# Altium schematic symbol library LimeMicroAltiumLib_schLib.SchLib: 174 symbols (part 7 of 8)
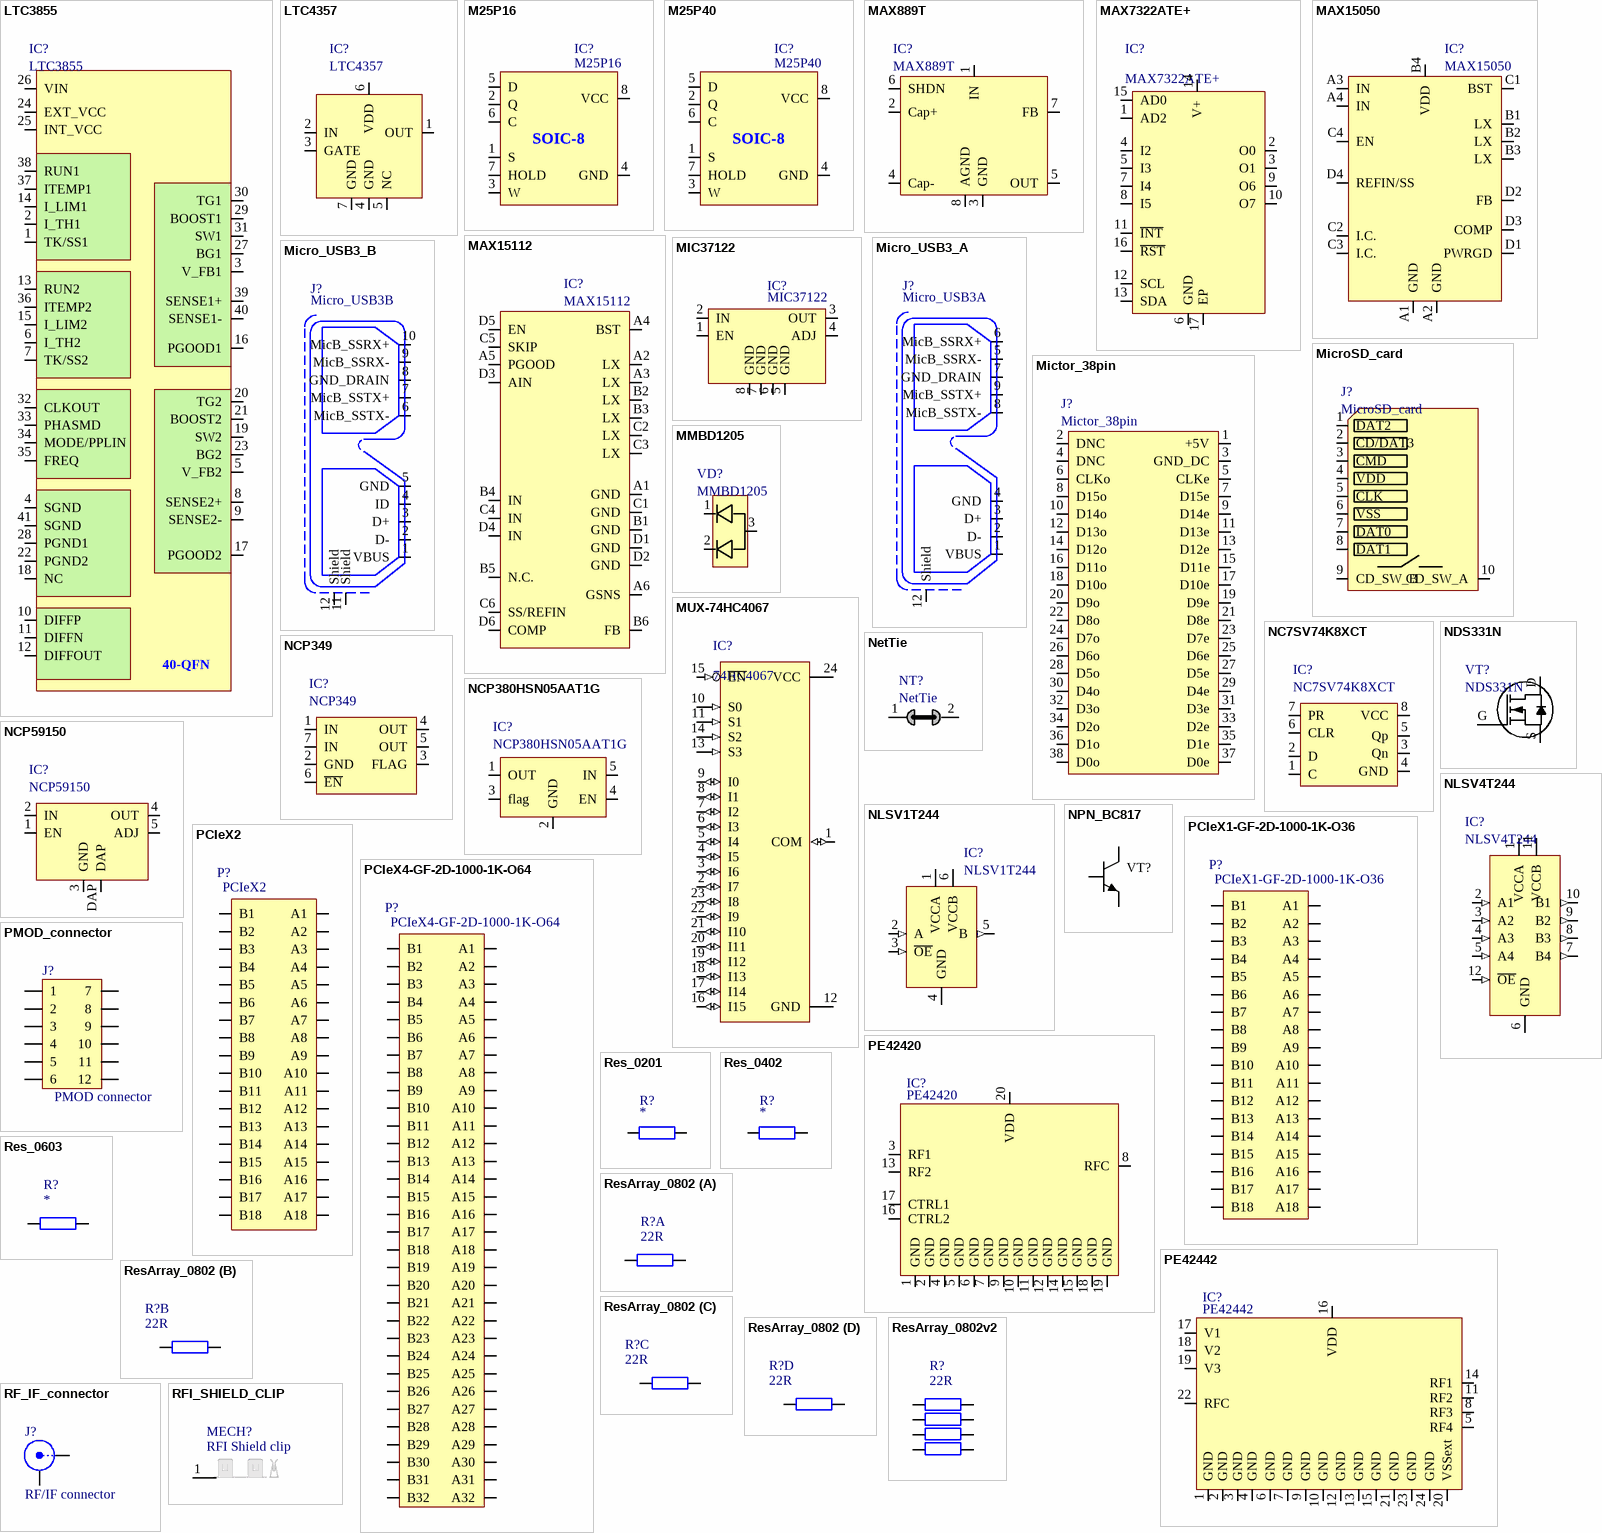
[diagram p40: symbols LTC3855 to RFI_SHIELD_CLIP]

## LTC4357
designator IC?
Manufacturer Part Number: LTC4357IDCB#TRMPBF; Current - Supply: 500µA; Delay Time - OFF: 300ns; Voltage - Supply: 9 V ~ 80 V; FET Type: N-Channel; Supplier 1: Digi-Key; Type: N+1 ORing Controller; Category: Integrated Circuits (ICs); Applications: Automotive, Redundant Power Supplies, Telecom Infrastructure; Operating Temperature: -40°C ~ 85°C; Supplier Device Package: 6-DFN (2x3); Supplier Part Number: LTC4357IDCB#TRMPBFDKR-ND
footprint LTC4357 (SON, 6-Leads, Body 2,00x3,00mm, Pitch 0,50mm, Thermal Pad 1,35x1,12mm, IPC Medium Density)
pins: 1 OUT, 2 IN, 3 GATE, 4 GND, 5 NC, 6 VDD, 7 GND

## M25P16
designator IC?
Manufacturer: Micron Technology Inc; Voltage - Supply: 2.7 V ~ 3.6 V; Memory Size: 16M (2M x 8); Speed: 75MHz; Supplier 1: Digi-Key; Supplier: Digi-Key; Supplier Device Package: 8-SO W; Supplier Part Number: M25P16-VMW6TGCT-ND
footprint M25P16_SO8 (SOIC, 8-Leads, Body 4,90x3,90mm, Pitch 1,27mm, IPC Medium Density)
pins: 1 S, 2 Q, 3 W, 4 GND, 5 D, 6 C, 7 HOLD, 8 VCC
text: SOIC-8

## M25P40
designator IC?
Manufacturer: Micron Technology Inc; Memory Size: 4M (512K x 8); Voltage - Supply: 2.3 V ~ 3.6 V; Supplier 1: Digi-Key; Supplier Device Package: 8-SO; Supplier: Digi-Key; Supplier Part Number: M25P40-VMN6TPBTR-ND
footprint M25P40-VMN6TPB_SO8N (SOIC, 8-Leads, Body 4,90x3,90mm, Pitch 1,27mm, IPC Medium Density)
pins: 1 S, 2 Q, 3 W, 4 GND, 5 D, 6 C, 7 HOLD, 8 VCC
text: SOIC-8

## MAX889T
designator IC?
Manufacturer Part Number 1: MAX889TESA+; Manufacturer: Maxim Integrated; Synchronous Rectifier: No; Voltage - Input: 2.7 V ~ 5.5 V; Current - Output: 200mA; Number of Outputs: 1; Output Type: Adjustable; Frequency - Switching: 2MHz; Voltage - Output: -2.5 V ~ -5.5 V; Supplier 1: Digi-Key; Packaging: Tube; Category: Integrated Circuits (ICs); Type: Switched Capacitor (Charge Pump), Inverting; Mounting Type: Surface Mount; Supplier Device Package: 8-SOIC N; Package / Case: 8-SOIC (0.154", 3.90mm Width); Operating Temperature: -40°C ~ 85°C; RoHS: RoHS Compliant; Supplier Part Number 1: MAX889TESA+-ND
footprint MAX889T (SOIC, 8-Leads, Body 4,90x3,90mm, Pitch 1,27mm, IPC Medium Density)
pins: 1 IN, 2 Cap+, 3 GND, 4 Cap-, 5 OUT, 6 SHDN, 7 FB, 8 AGND

## MAX7322ATE+
designator IC?
Manufacturer: Maxim Integrated; Interface: I²C; Number of I/O: 4 (Input Only); Voltage - Supply: 1.7 V ~ 5.5 V; Interrupt Output: Yes; Current - Output Source/Sink: 20mA; Frequency - Clock: 400kHz; Supplier 1: Digi-Key; Mounting Type: Surface Mount; Category: Integrated Circuits (ICs); RoHS: RoHS Compliant; Packaging: Tube; Manufacturer Part Number: MAX7322ATE+; Supplier Device Package: 16-TQFN-EP (3x3); Package / Case: 16-WFQFN Exposed Pad; Operating Temperature: -40°C ~ 125°C; Features: POR; Output Type: -; Supplier Part Number 1: MAX7322ATE+-ND
footprint MAX7322ATE_QFN16
pins: 1 AD2, 2 O0, 3 O1, 4 I2, 5 I3, 6 GND, 7 I4, 8 I5, 9 O6, 10 O7, 11 ~{INT}, 12 SCL, 13 SDA, 14 V+, 15 AD0, 16 ~{RST}, 17 EP

## MAX15050
designator IC?
Input Voltage MIN: 2.9 V; Output Voltage: 600 mV to 6 V; Output Current: 4 A; Brand: Maxim Integrated; Input Voltage MAX: 5.5 V; Supplier 1: Mouser; Minimum Operating Temperature: - 40 C; Series: MAX15050; Package / Case: WLP-16; Category: Voltage Regulators - Switching Regulators; Maximum Operating Temperature: + 85 C; Supplier Part Number 1: 700-MAX15050EWE+T
footprint MAX15050 (BGA, 16-Leads, Body 2,22x2,06mmx0,25mm, Pitch 0,50mm)
pins: A1 GND, A2 GND, A3 IN, A4 IN, B1 LX, B2 LX, B3 LX, B4 VDD, C1 BST, C2 I.C., C3 I.C., C4 EN, D1 PWRGD, D2 FB, D3 COMP, D4 REFIN/SS

## MAX15112
designator IC?
Development Kit: MAX15112EVKIT#; Topology: Buck; Brand: Maxim Integrated; Input Voltage MIN: 2.7 V; Input Voltage MAX: 5.5 V; Supplier 1: Mouser; Type: Current-Mode Synchronous Step-Down; Category: Voltage Regulators - Switching Regulators; Series: MAX15112; Package / Case: WLP-24; Maximum Operating Temperature: + 85 C; Minimum Operating Temperature: - 40 C; Supplier Part Number 1: 700-MAX15112EWG+
footprint MAX15112 (BGA, 24-Leads, Body 3,02x2,07mmx0,25mm, Pitch 0,50mm)
pins: A1 GND, A2 LX, A3 LX, A4 BST, A5 PGOOD, A6 GSNS, B1 GND, B2 LX, B3 LX, B4 IN, B5 N.C., B6 FB, C1 GND, C2 LX, C3 LX, C4 IN, C5 SKIP, C6 SS/REFIN, D1 GND, D2 GND, D3 AIN, D4 IN, D5 EN, D6 COMP

## MIC37122
designator IC?
Voltage - Input: 2.375 V ~ 5.5 V; Supplier 1: Digi-Key; Supplier: Digi-Key; Package / Case: 8-SOIC (0.154", 3.90mm Width); Supplier Part Number: 576-4334-2-ND
footprint MIC37122YM TR_SO8 (SOIC, 8-Leads, Body 4,90x3,90mm, Pitch 1,27mm, IPC Medium Density)
pins: 1 EN, 2 IN, 3 OUT, 4 ADJ, 5 GND, 6 GND, 7 GND, 8 GND

## Micro_USB3_A
designator J?, comment Micro_USB3A
footprint microUSB3A_SM
pins: 1 VBUS, 2 D-, 3 D+, 4 GND, 5 MicB_SSRX-, 6 MicB_SSRX+, 7 GND_DRAIN, 8 MicB_SSTX-, 9 MicB_SSTX+, 12 Shield

## Micro_USB3_B
designator J?, comment Micro_USB3B
Specifications: USB 3.0, Super Speed; Connector Type: USB - micro B; Supplier 1: Digi-Key; Mounting Type: Surface Mount, Right Angle, Horizontal; Category: Connectors, Interconnects; Supplier: Digi-Key; Supplier Part Number: GSB343K33HRCT-ND
pins: 1 VBUS, 2 D-, 3 D+, 4 ID, 5 GND, 6 MicB_SSTX-, 7 MicB_SSTX+, 8 GND_DRAIN, 9 MicB_SSRX-, 10 MicB_SSRX+, 11 Shield, 12 Shield

## MicroSD_card
designator J?
Supplier 1: Digi-Key; Supplier Part Number 1: HR1964CT-ND
pins: 1 DAT2, 2 CD/DAT3, 3 CMD, 4 VDD, 5 CLK, 6 VSS, 7 DAT0, 8 DAT1, 9 CD_SW_B, 10 CD_SW_A

## Mictor_38pin
designator J?
Manufacturer: TE CONNECTIVITY / AMP; Manufacturer Part Number: 2-5767004-2; Contact Termination Type: Surface Mount; Pitch Spacing: 0.64; No. of Contacts: 38; Gender: Receptacle; No. of Rows: 2; Row Pitch: 7.06; Supplier 1: Newark; Series: MICTOR; Contact Plating: Gold; Supplier Part Number 1: 24K3655
footprint AMP_MICTOR38
pins: 1 +5V, 2 DNC, 3 GND_DC, 4 DNC, 5 CLKe, 6 CLKo, 7 D15e, 8 D15o, 9 D14e, 10 D14o, 11 D13e, 12 D13o, 13 D12e, 14 D12o, 15 D11e, 16 D11o, 17 D10e, 18 D10o, 19 D9e, 20 D9o, 21 D8e, 22 D8o, 23 D7e, 24 D7o, 25 D6e, 26 D6o, 27 D5e, 28 D5o, 29 D4e, 30 D4o, 31 D3e, 32 D3o, 33 D2e, 34 D2o, 35 D1e, 36 D1o, 37 D0e, 38 D0o

## MMBD1205
designator VD?
Reverse Recovery Time (trr): 4ns; Diode Configuration: 1 Pair Common Anode; Voltage - DC Reverse (Vr) (Max): 100V; Current - Average Rectified (Io) (per Diode): 200mA; Current - Reverse Leakage @ Vr: 50nA @ 50V; Voltage - Forward (Vf) (Max) @ If: 1V @ 200mA; Supplier 1: Digi-Key; Category: Discrete Semiconductor Products; Supplier Device Package: SOT-23-3 (TO-236); Package / Case: TO-236-3, SC-59, SOT-23-3; Supplier Part Number 1: MMBD1205CT-ND
footprint SOT23-3_v2 (SOT23, 3 pin)
pins: 1, 2, 3

## MUX-74HC4067
designator IC?, comment 74HC4067
MUX-74HC4067; Manufacturer Part Number 1: 74HC4067PW,118; Manufacturer: NXP Semiconductors; Function: Multiplexer/Demultiplexer; On-State Resistance: 120 Ohm; Circuit: 1 x 1:16; Current - Supply: 16µA; Voltage - Supply, Single/Dual (±): 2 V ~ 10 V; Voltage Supply Source: Single Supply; Supplier 1: Digi-Key; Mounting Type: Surface Mount; Supplier Device Package: 24-TSSOP; Packaging: Tape & Reel (TR); RoHS: RoHS Compliant; Operating Temperature: -40°C ~ 125°C; Category: Integrated Circuits (ICs); Package / Case: 24-TSSOP (0.173", 4.40mm Width); Supplier Part Number 1: 74HC4067PW,118-ND
footprint SSOP-24 (SOP, 24-Leads, Body 8,5x5,6mm (max), Pitch 0,65mm, IPC Medium Density)
footprint SSOP-24 (SOP, 24-Leads, Body 8,5x5,6mm (max), Pitch 0,65mm, IPC Medium Density)
pins: 1 COM (io), 2 I7 (io), 3 I6 (io), 4 I5 (io), 5 I4 (io), 6 I3 (io), 7 I2 (io), 8 I1 (io), 9 I0 (io), 10 S0 (in), 11 S1 (in), 12 GND (power), 13 S3 (in), 14 S2 (in), 15 ~{EN} (in), 16 I15 (io), 17 I14 (io), 18 I13 (io), 19 I12 (io), 20 I11 (io), 21 I10 (io), 22 I9 (io), 23 I8 (io), 24 VCC (power)

## NC7SV74K8XCT
designator IC?
Manufacturer: Fairchild Semiconductor; Max Propagation Delay @ V, Max CL: 2.8ns @ 3.3V, 30pF; Frequency - Clock: 200MHz; Current - Output High, Low: 24mA, 24mA; Current - Quiescent: 0.9µA; Number of Bits per Element: 1; Trigger Type: Positive Edge; Output Type: Differential; Function: Set(Preset) and Reset; Input Capacitance: 2pF; Voltage - Supply: 0.9 V ~ 3.6 V; Supplier 1: Digi-Key; Operating Temperature: -40°C ~ 85°C (TA); Mounting Type: Surface Mount; Package / Case: 8-VFSOP (0.091", 2.30mm Width); Packaging: Cut Tape (CT); Number of Elements: 1; Manufacturer Part Number 1: NC7SV74K8X; RoHS: RoHS Compliant; Type: D-Type; Category: Integrated Circuits (ICs); Supplier Part Number 1: NC7SV74K8XCT-ND
footprint NC7SV74K8XCT (SOIC, 8-Leads, Body 2,00x2,30mm, Pitch 1,27mm, IPC Medium Density)
pins: 1 C, 2 D, 3 Qn, 4 GND, 5 Qp, 6 CLR, 7 PR, 8 VCC

## NCP349
designator IC?
Manufacturer: ON Semiconductor; Manufacturer Part Number 1: NCP349MNAETBG; Current - Supply: 70µA; Voltage - Supply: 1.2 V ~ 28 V; Supplier 1: Digi-Key; Operating Temperature: -40°C ~ 85°C; Package / Case: 6-VFDFN Exposed Pad; RoHS: RoHS Compliant; Supplier Device Package: 6-DFN (2x1.6); Category: Integrated Circuits (ICs); Mounting Type: Surface Mount; Voltage - Input: -; Applications: Overvoltage Protection Controller; Packaging: Digi-Reel®; Supplier Part Number 1: NCP349MNAETBGOSDKR-ND
footprint NCP349 (SON, 6-Leads, Body 1,60x2,00mm, Pitch 0,50mm, Thermal Pad 1,20x0,79mm, IPC Medium Density)
pins: 1 IN, 2 GND, 3 FLAG, 4 OUT, 5 OUT, 6 ~{EN}, 7 IN

## NCP380HSN05AAT1G
designator IC?
Manufacturer: ON Semiconductor; Voltage - Input: 2.5 V ~ 5.5 V; Function: Current Limiting; Current - Output: 500mA; Supplier 1: Digi-Key; Category: Integrated Circuits (ICs); Package / Case: 6-TSOP (0.059", 1.50mm Width) 5 leads; Supplier Part Number 1: NCP380HSN05AAT1GOSCT-ND
footprint SOT23-5
pins: 1 OUT, 2 GND, 3 flag, 4 EN, 5 IN

## NCP59150
designator IC?
Manufacturer Part Number 1: NCP59151DS50R4G; Manufacturer: ON SEMICONDUCTOR; Input Voltage Min: 2.24; Dropout Voltage Vdo: 300; Output Voltage Nom.: 5; Input Voltage Max: 13.5; Output Current: 1.5; LDO Regulator Case Style: TO-263; Supplier 1: Farnell; Operating Temperature Range: -40°C to +125; Supplier Part Number 1: 2217055
footprint DPAK170P1420X450-6N (D2-PAK, 6-Pads, Body 7,75x8,46mm (max), IPC Medium Density)
pins: 1 EN, 2 IN, 3 GND, 4 OUT, 5 ADJ, DAP

## NDS331N
designator VT?
Gate Charge (Qg) @ Vgs: 5nC @ 4.5V; Power - Max: 460mW; Current - Continuous Drain (Id) @ 25°C: 1.3A (Ta); Input Capacitance (Ciss) @ Vds: 162pF @ 10V; FET Type: MOSFET N-Channel, Metal Oxide; Drain to Source Voltage (Vdss): 20V; FET Feature: Logic Level Gate; Supplier Device Package: 3-SSOT; Category: Discrete Semiconductor Products; Mounting Type: Surface Mount; Package / Case: TO-236-3, SC-59, SOT-23-3; Supplier: Digi-Key; Supplier Part Number 1: NDS331NCT-ND
footprint SOT23-3 (SOT23, 3 pin)
pins: D, G, S

## NetTie
designator NT?  (net tie, no BOM)
pins: 1, 2

## NLSV1T244
designator IC?
pins: 1 VCCA (power), 2 A (in), 3 ~{OE} (in), 4 GND (power), 5 B (out), 6 VCCB (power)

## NLSV4T244
designator IC?
Manufacturer: ON Semiconductor; Voltage - Supply: 0.9 V ~ 4.5 V; Logic Function: Translator, Unidirectional, 3-State; Supplier 1: Digi-Key; Category: Integrated Circuits (ICs); Package / Case: 12-UFQFN; Supplier Device Package: 12-UQFN (1.7x2); Supplier Part Number 1: NLSV4T244MUTAGOSDKR-ND
footprint NLSV4T244 (PQFN, 12-Leads, Body 1,70x2,00mm, Pitch 0,40mm, IPC Medium Density)
pins: 1 VCCA (power), 2 A1 (in), 3 A2 (in), 4 A3 (in), 5 A4 (in), 6 GND (power), 7 B4 (out), 8 B3 (out), 9 B2 (out), 10 B1 (out), 11 VCCB (power), 12 ~{OE} (in)

## NPN_BC817
designator VT?  (value not drawn)
Transistor SOT-23; Manufacturer Part Number 1: BC817; Manufacturer: MULTICOMP; Transistor Polarity: NPN; Collector Emitter Voltage V(br)ceo: 45; Transition Frequency ft: 170; Power Dissipation Pd: 300; DC Collector Current: 500; DC Current Gain hFE: 100; No. of Pins: 3; SVHC: No SVHC (16-Jun-2014); DC Current Gain Hfe Max: 600; Supplier 1: Farnell; RoHS: YES; Transistor Case Style: SOT-23; Operating Temperature Max: 150; MSL: -; Operating Temperature Min: -65; Operating Temperature Range: -65°C to +150; Supplier Part Number 1: 1798076
footprint SOT23-3_v2 (SOT23, 3 pin)
pins: 1 B, 2 E, 3 C

## PCIeX1-GF-2D-1000-1K-O36
designator P?  (no BOM)
footprint PCIeX1-GF-2D-1000-1K-O36
pins: A1, A2, A3, A4, A5, A6, A7, A8, A9, A10, A11, A12, A13, A14, A15, A16, A17, A18, B1, B2, B3, B4, B5, B6, B7, B8, B9, B10, B11, B12, B13, B14, B15, B16, B17, B18

## PCIeX2
designator P?  (no BOM)
footprint PCIeX2
pins: A1, A2, A3, A4, A5, A6, A7, A8, A9, A10, A11, A12, A13, A14, A15, A16, A17, A18, B1, B2, B3, B4, B5, B6, B7, B8, B9, B10, B11, B12, B13, B14, B15, B16, B17, B18

## PCIeX4-GF-2D-1000-1K-O64
designator P?  (no BOM)
footprint PCIeX4-GF-2D-1000-1K-O64
pins: A1, A2, A3, A4, A5, A6, A7, A8, A9, A10, A11, A12, A13, A14, A15, A16, A17, A18, A19, A20, A21, A22, A23, A24, A25, A26, A27, A28, A29, A30, A31, A32, B1, B2, B3, B4, B5, B6, B7, B8, B9, B10, B11, B12, B13, B14, B15, B16, B17, B18, B19, B20, B21, B22, B23, B24, B25, B26, B27, B28, B29, B30, B31, B32

## PE42420
designator IC?
UltraCMOS SPDT RF Switch  100 – 6000 MHz; Manufacturer Part Number: PE42420LGBB-Z; Manufacturer: Peregrine Semiconductor; Topology: Absorptive; Impedance: 50 Ohm; Frequency - Upper: 6GHz; RF Type: General Purpose; Voltage - Supply: 2.7 V ~ 5.5 V; Frequency - Lower: 100MHz; Insertion Loss @ Frequency: 1.6dB @ 6GHz; Isolation @ Frequency: 50dB @ 6GHz (typ); P1dB: 33dBm (min) IP1dB; IIP3: 65dBm (typ); Supplier 1: Digi-Key; RoHS: RoHS Compliant; Category: RF/IF and RFID; Circuit: SPDT; Supplier Device Package: 20-LGA (4x4); Operating Temperature: -40°C ~ 85°C; Features: -; Packaging: Cut Tape (CT); Package / Case: 20-TFLGA Exposed Pad; Supplier Part Number 1: 1046-1069-1-ND
footprint PE42420_20QFN (QFN, 20-Leads, Body 4,00x4,00mm, Pitch 0,50mm, Thermal Pad 2,70x2,70mm, IPC Medium Density)
pins: 1 GND, 2 GND, 3 RF1 (io), 4 GND, 5 GND, 6 GND, 7 GND, 8 RFC (io), 9 GND, 10 GND, 11 GND, 12 GND, 13 RF2 (io), 14 GND, 15 GND, 16 CTRL2 (in), 17 CTRL1 (in), 18 GND, 19 GND, 20 VDD (power)

## PE42442
designator IC?
UltraCMOS SPDT RF Switch  100 – 6000 MHz; Manufacturer Part Number 1: PE42442A-Z; Manufacturer: Peregrine Semiconductor; Topology: Absorptive; Insertion Loss @ Frequency: 1.1dB @ 900MHz; IIP3: 58dBm (typ); Isolation @ Frequency: 61dB @ 900MHz (typ); RF Type: 3G/4G; Voltage - Supply: 3.3V; Impedance: 50 Ohm; Circuit: SP4T; Frequency - Lower: 30MHz; Frequency - Upper: 6GHz; Supplier 1: Digi-Key; Supplier Device Package: 24-QFN (4x4); Package / Case: 24-WFQFN Exposed Pad; Operating Temperature: -40°C ~ 105°C; Features: -; P1dB: -; Category: RF/IF and RFID; Packaging: Cut Tape (CT); RoHS: RoHS Compliant; Supplier Part Number 1: 1046-1096-1-ND
footprint PE42442_24QFN (QFN, 24-Leads, Body 4,00x4,00mm, Pitch 0,50mm, thermal pad, IPC Medium Density)
pins: 1 GND, 2 GND, 3 GND, 4 GND, 5 RF4 (io), 6 GND, 7 GND, 8 RF3 (io), 9 GND, 10 GND, 11 RF2 (io), 12 GND, 13 GND, 14 RF1 (io), 15 GND, 16 VDD (power), 17 V1 (in), 18 V2 (in), 19 V3 (in), 20 VSSext, 21 GND, 22 RFC (io), 23 GND, 24 GND

## PMOD_connector
designator J?, comment PMOD connector
Header, 4-Pin, Dual row; Manufacturer Part Number: PPPC062LJBN-RC; Manufacturer: Sullins Connector Solutions; Row Spacing: 0.100" (2.54mm); Number of Positions Loaded: All; Number of Positions: 12; Supplier 1: Digi-Key; Mounting Type: Through Hole, Right Angle; Contact Finish: Gold; Features: -; Category: Connectors, Interconnects; Packaging: Bulk; RoHS: RoHS Compliant; Number of Rows: 2; Contact Finish Thickness: Flash; Pitch: 0.100" (2.54mm); Termination: Solder; Contact Type: Female Socket; Color: Black; Connector Type: Header; Fastening Type: -; Supplier Part Number 1: S5559-ND
footprint PMODconn_right_angle_TH (JTAG)
pins: 1, 2, 3, 4, 5, 6, 7, 8, 9, 10, 11, 12

## Res_0201
designator R?
value: *
pins: 1, 2

## Res_0402
designator R?
Value: *
footprint RES0402 (Chip Resistor, Body 1.0x0.5mm, EIA 0402, IPC Medium Density)
pins: 1, 2

## Res_0603
designator R?
Value: *
footprint RES0603 (Chip Resistor, Body 1.6x0.8mm, 0603, IPC Medium Density)
pins: 1, 2

## ResArray_0802
designator R?, comment 22R
Temperature Coefficient: ±200ppm/°C; Tolerance: ±5%; Supplier 1: Digi-Key; Supplier Part Number 1: YC124J-22TR-ND; Package / Case: 0804, Convex, Long Side Terminals; Value: 22R
footprint ChipResistorArray (Chip Array, Flat, 8-Leads, Pitch 0,60mm,  Body 2,05x1,05mm,  IPC Medium Density)
part A pins: 1, 2
part B pins: 3, 4
part C pins: 5, 6
part D pins: 7, 8

## ResArray_0802v2
designator R?, comment 22R
Manufacturer Part Number 1: YC124-JR-0722RL; Temperature Coefficient: ±200ppm/°C; Tolerance: ±5%; Supplier 1: Digi-Key; Supplier Part Number 1: YC124J-22TR-ND; Package / Case: 0804, Convex, Long Side Terminals; Value: 22R
footprint ChipResistorArray (Chip Array, Flat, 8-Leads, Pitch 0,60mm,  Body 2,05x1,05mm,  IPC Medium Density)
pins: 1, 2, 3, 4, 5, 6, 7, 8

## RF_IF_connector
designator J?, comment RF/IF connector
footprint MMCX_conn
pins: 1 X, 2 Y

## RFI_SHIELD_CLIP
designator MECH?, comment RFI Shield clip
Manufacturer Part Number 1: S0971-46R; Manufacturer: HARWIN; Part Description: RFI SHIELD CLIP MINI TIN SMD; SVHC: No SVHC (15-Jun-2015); Supplier 1: Farnell; Supplier: Farnell; Length: 5.8; Clip Type: RFI Shield Clip; Clip Diameter: -; Product Range: -; Mounting Hole Dia: -; RoHS: YES; Supplier Part Number 1: 2361677
footprint RFI_SHIELD_CLPS_MINI (RFI SHIELD CLIP MINI TIN SMD, S0971-46R)
pins: 1 GND

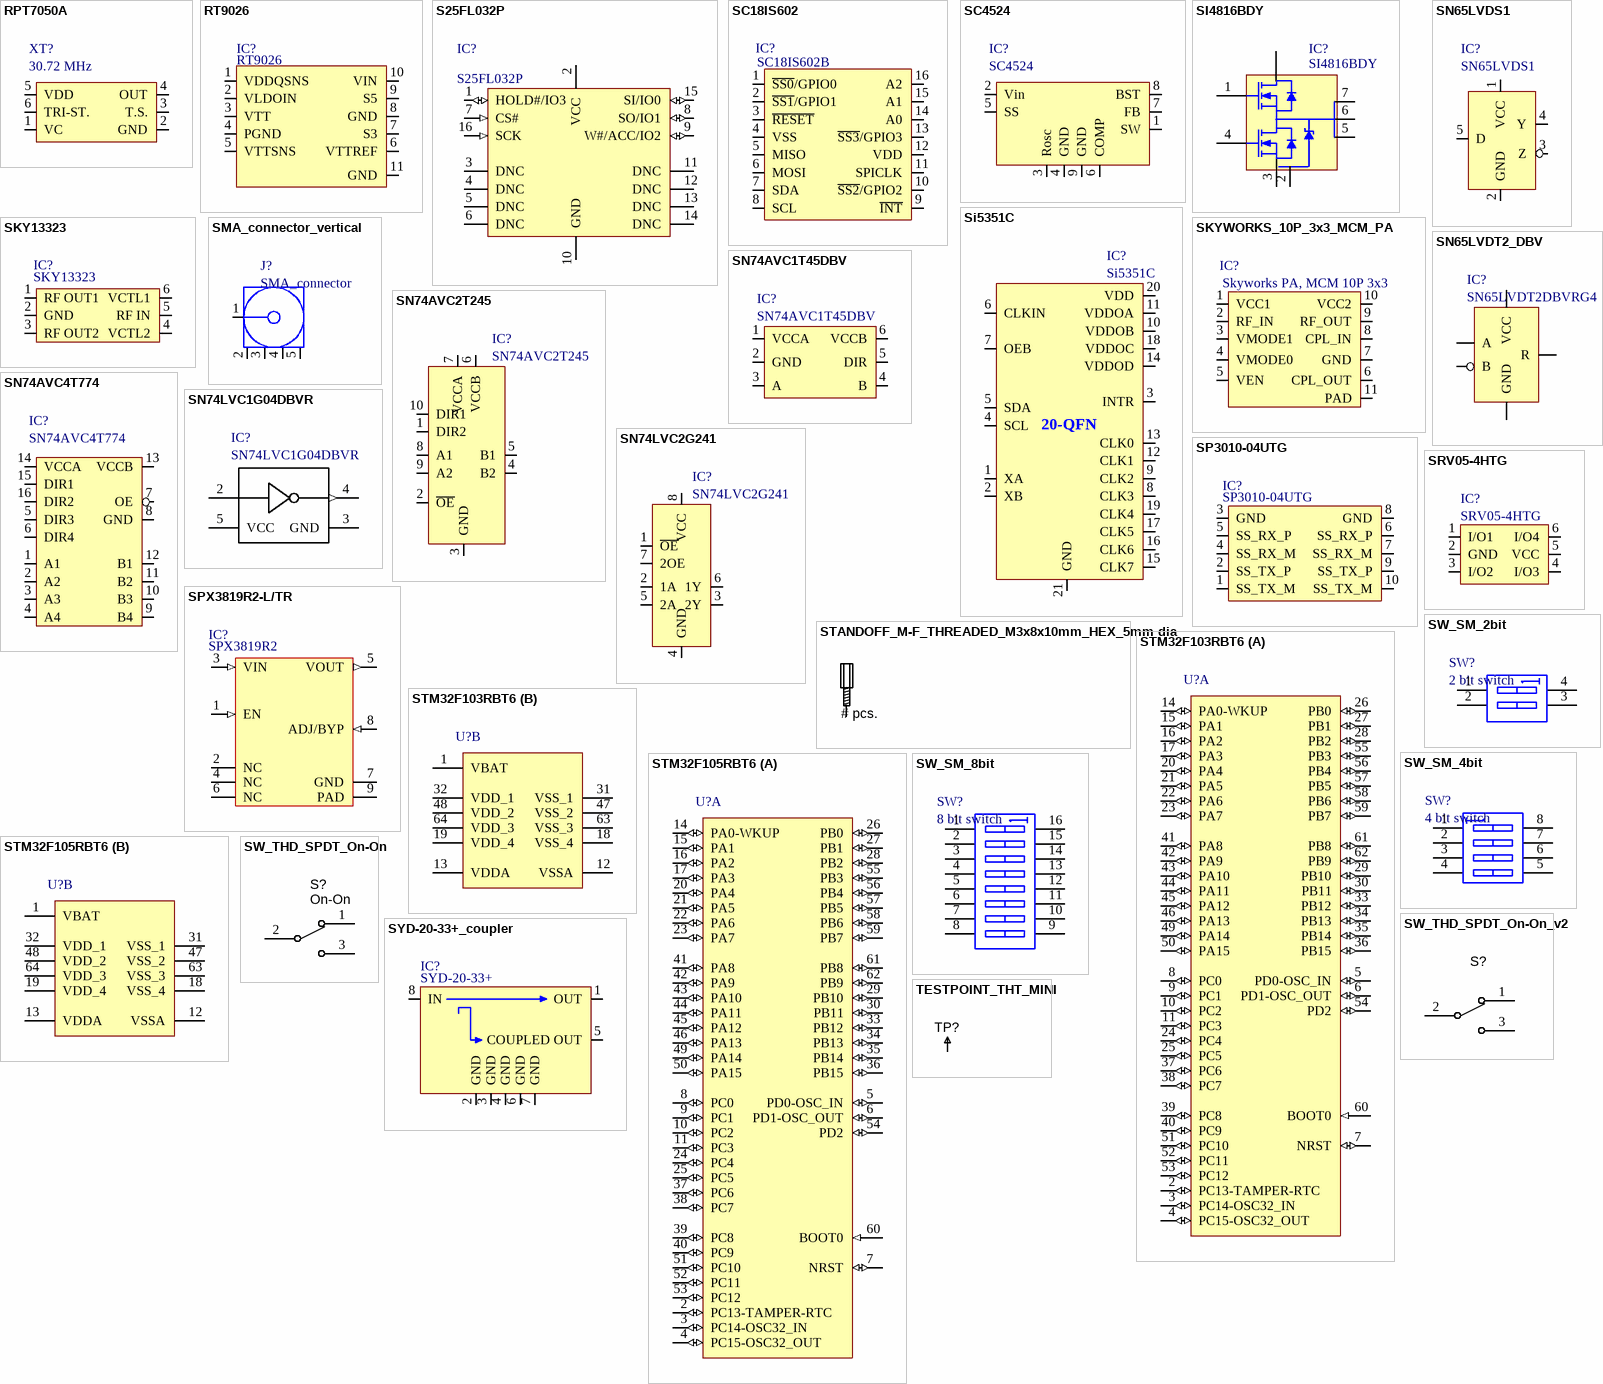
[diagram p32: symbols RPT7050A to TESTPOINT_THT_MINI]

## RPT7050A
designator XT?, comment 30.72 MHz
Manufacturer Part Number 1: E6245LF
footprint RPT7050A (Rakon's Pluto+ ASIC)
pins: 1 VC, 2 GND, 3 T.S., 4 OUT, 5 VDD, 6 TRI-ST.

## RT9026
designator IC?
footprint MSOP10
pins: 1 VDDQSNS, 2 VLDOIN, 3 VTT, 4 PGND, 5 VTTSNS, 6 VTTREF, 7 S3, 8 GND, 9 S5, 10 VIN, 11 GND

## S25FL032P
designator IC?
Manufacturer Part Number 1: S25FL032P0XMFI001; Manufacturer: Spansion; Speed: 104MHz; Interface: SPI Serial; Memory Size: 32M (4M x 8); Format - Memory: FLASH; Memory Type: FLASH - NOR; Voltage - Supply: 2.7 V ~ 3.6 V; Package / Case: 16-SOIC (0.295", 7.50mm Width); Supplier Device Package: 16-SOIC; Operating Temperature: -40°C ~ 85°C; RoHS: RoHS Compliant; Category: Integrated Circuits (ICs); Packaging: Tube; Supplier 1: Digi-Key; Supplier Part Number 1: S25FL032P0XMFI001-ND
footprint SOIC16_WIDE (SOIC, 1.27mm pitch, 16 pin)
pins: 1 HOLD#/IO3 (io), 2 VCC (power), 3 DNC, 4 DNC, 5 DNC, 6 DNC, 7 CS# (in), 8 SO/IO1 (io), 9 W#/ACC/IO2 (io), 10 GND, 11 DNC, 12 DNC, 13 DNC, 14 DNC, 15 SI/IO0 (io), 16 SCK (in)

## SC18IS602
designator IC?, comment SC18IS602B
Manufacturer Part Number: SC18IS602BIPW,128; Manufacturer: NXP Semiconductors; Current - Supply: 11mA; Protocol: I²C; Interface: SPI; Function: Controller; Voltage - Supply: 2.4 V ~ 3.6 V; Supplier 1: Digi-Key; Standards: -; Supplier Device Package: 16-TSSOP; Package / Case: 16-TSSOP (0.173", 4.40mm Width); RoHS: RoHS Compliant; Packaging: Tape & Reel (TR); Category: Integrated Circuits (ICs); Operating Temperature: -40°C ~ 85°C; Supplier Part Number 1: 568-10300-2-ND
footprint SC18IS602B_TSSOP16
pins: 1 ~{SS0}/GPIO0, 2 ~{SS1}/GPIO1, 3 ~{RES}~{ET}, 4 VSS (power), 5 MISO, 6 MOSI, 7 SDA, 8 SCL, 9 ~{INT}, 10 ~{SS2}/GPIO2, 11 SPICLK, 12 VDD (power), 13 ~{SS3}/GPIO3, 14 A0, 15 A1, 16 A2

## SC4524
designator IC?
Manufacturer: SEMTECH; Manufacturer Part Number 1: SC4524CSETRT; Input Voltage Max: 28; DC / DC Converter IC Case: SOIC; Switching Frequency: 1.56; Topology: Buck (Step Down); Supplier 1: Farnell; Supplier: Farnell; Supplier Part Number 1: 2369193
footprint SOIC127P600-8DL (8-Pin Small Outline Integrated Circuit 1.27 mm Pitch)
pins: 1 SW, 2 Vin, 3 Rosc, 4 GND, 5 SS, 6 COMP, 7 FB, 8 BST, 9 GND

## SI4816BDY
designator IC?
Dual N-Channel 30V (D-S)  MOSFET; Manufacturer: Vishay Siliconix; Power - Max: 1W, 1.25W; Gate Charge (Qg) @ Vgs: 10nC @ 5V; Vgs(th) (Max) @ Id: 3V @ 250µA; Current - Continuous Drain (Id) @ 25°C: 5.8A, 8.2A; FET Feature: Logic Level Gate; FET Type: 2 N-Channel (Half Bridge); Supplier 1: Digi-Key; Package / Case: 8-SOIC (0.154", 3.90mm Width); Drain to Source Voltage (Vdss): 30V; Category: Discrete Semiconductor Products; Supplier Part Number 1: SI4816BDY-T1-E3TR-ND
footprint SO-8_N (SOIC, 8-Leads, Body 4.9x3.9mm, Pitch 1.27mm, IPC Medium Density)
pins: 1 G, 2 S, 3 S, 4 G, 5 D, 6 D, 7 D, 8 D

## Si5351C
designator IC?
Manufacturer Part Number: SI5351C-A-GM; Voltage - Supply: 1.71 V ~ 3.6 V; Input: Clock, Crystal; Ratio - Input:Output: 2:8; Frequency - Max: 160MHz; Supplier 1: Digi-Key; Supplier Device Package: 20-QFN (4x4); Type: Clock Generator; Package / Case: 20-VFQFN Exposed Pad; Category: Integrated Circuits (ICs); Supplier Part Number: SI5351C-A-GM-ND
footprint Si5351C_20QFN (QFN, 20-Leads, Body 4,00x4,00mm, Pitch 0,50mm, Thermal Pad 2,70x2,70mm, IPC Medium Density)
pins: 1 XA, 2 XB, 3 INTR, 4 SCL, 5 SDA, 6 CLKIN, 7 OEB, 8 CLK3, 9 CLK2, 10 VDDOB, 11 VDDOA, 12 CLK1, 13 CLK0, 14 VDDOD, 15 CLK7, 16 CLK6, 17 CLK5, 18 VDDOC, 19 CLK4, 20 VDD, 21 GND
text: 20-QFN

## SKY13323
designator IC?
SKY13323-378LF: 0.1-3.0 GHz GaAs SPDT Switch; Manufacturer: Skyworks Solutions Inc.; Frequency - Lower: 100MHz; P1dB: 27dBm (typ) IP1dB; Isolation @ Frequency: 27dB @ 3GHz (typ); RF Type: 802.11b/g; Impedance: 50 Ohm; IIP3: 50dBm (typ); Topology: Reflective; Insertion Loss @ Frequency: 0.35dB @ 3GHz; Frequency - Upper: 3GHz; Supplier 1: Digi-Key; Operating Temperature: -40°C ~ 85°C; RoHS: RoHS Compliant; Package / Case: 6-XFDFN Exposed Pad; Circuit: SPDT; Features: -; Supplier Device Package: 6-MLPD (1x1); Category: RF/IF and RFID; Packaging: Cut Tape (CT); Manufacturer Part Number 1: SKY13323-378LF; Supplier Part Number 1: 683-1334-1-ND
footprint SKY13323-378LF (SKY13323-378LF RF switch)
pins: 1 RF OUT1 (out), 2 GND, 3 RF OUT2 (out), 4 VCTL2 (in), 5 RF IN (in), 6 VCTL1 (in)

## SKYWORKS_10P_3x3_MCM_PA
designator IC?, comment Skyworks PA, MCM 10P 3x3
footprint SKYWORKS_10PIN_MCM_3x3
pins: 1 VCC1 (power), 2 RF_IN (in), 3 VMODE1 (in), 4 VMODE0 (in), 5 VEN (in), 6 CPL_OUT (out), 7 GND, 8 CPL_IN (in), 9 RF_OUT (out), 10 VCC2 (power), 11 PAD

## SMA_connector_vertical
designator J?, comment SMA_connector
Supplier 1: Farnell; Supplier Part Number 1: 1206013
footprint SMA_connector_vertical
pins: 1 RF, 2 GND, 3 GND, 4 GND, 5 GND

## SN65LVDS1
designator IC?
Manufacturer: TEXAS INSTRUMENTS; Manufacturer Part Number 1: SN65LVDS1DBVR; Supply Voltage Min: 2.4; Supply Voltage Max: 3.6; No. of Pins: 5; Driver Case Style: SOT-23; Supplier 1: Newark; Supplier Part Number 1: 76C0715
footprint SOT23-5
pins: 1 VCC, 2 GND, 3 Z, 4 Y, 5 D

## SN65LVDT2_DBV
designator IC?, comment SN65LVDT2DBVRG4
Manufacturer: Texas Instruments; Voltage - Supply: 2.4 V ~ 3.6 V; Number of Drivers/Receivers: 0/1; Data Rate: 400Mbps; Protocol: LVDS; Supplier 1: Digi-Key; Category: Integrated Circuits (ICs); Type: Receiver; Manufacturer Part Number 1: SN65LVDT2DBVRG4; Packaging: Tape & Reel (TR); RoHS: RoHS Compliant; Supplier Device Package: SOT-23-5; Package / Case: SC-74A, SOT-753; Mounting Type: Surface Mount; Operating Temperature: -40°C ~ 85°C; Receiver Hysteresis: -; Duplex: -; Supplier Part Number 1: SN65LVDT2DBVRG4-ND
footprint SOT23-5
pins: 1 VCC, 2 GND, 3 A, 4 B, 5 R

## SN74AVC1T45DBV
designator IC?
Manufacturer: Texas Instruments; Data Rate: 500Mbps; Voltage - Supply: 1.2 V ~ 3.6 V; Supplier 1: Digi-Key; Category: Integrated Circuits (ICs); Package / Case: SOT-23-6; Supplier Part Number: 296-19094-1-ND
footprint SOT23-6
pins: 1 VCCA (power), 2 GND, 3 A (io), 4 B (io), 5 DIR (in), 6 VCCB (power)

## SN74AVC2T245
designator IC?
Input Type: Logic; Logic Function: Translator, Bidirectional, 3-State; Data Rate: 500Mbps; Propagation Delay (Max): 2.4ns; Voltage - Supply: 1.2 V ~ 3.6 V; Supplier 1: Digi-Key; Category: Integrated Circuits (ICs); Supplier Device Package: 10-UQFN (1.8x1.4); Package / Case: 10-UFQFN; Supplier Part Number: 296-23684-1-ND
footprint SN74AVC2T245RSWR (PQFN, 10-Leads, Body 1,80x1,40mm, Pitch 0,40mm, IPC Medium Density)
pins: 1 DIR2, 2 ~{OE}, 3 GND, 4 B2, 5 B1, 6 VCCB, 7 VCCA, 8 A1, 9 A2, 10 DIR1

## SN74AVC4T774
designator IC?
Manufacturer: Texas Instruments; Manufacturer Part Number 1: SN74AVC4T774RSVR; Logic Function: Translator, Bidirectional, 3-State; Differential - Input:Output: No/No; Propagation Delay (Max): 2.4ns; Number of Bits: 4; Number of Outputs/Channel: 1; Input Type: Logic; Voltage - Supply: 1.2 V ~ 3.6 V; Data Rate: 380Mbps; Supplier 1: Digi-Key; Supplier Device Package: 16-UQFN (2.6x1.8); Packaging: Digi-Reel®; Category: Integrated Circuits (ICs); Mounting Type: Surface Mount; RoHS: RoHS Compliant; Number of Channels: 4; Output Type: Logic; Package / Case: 16-UFQFN; Operating Temperature: -40°C ~ 85°C; Supplier Part Number 1: 296-24741-6-ND
footprint SN74AVC4T774 (PQFN, 16-Leads, Body 2,60x1,80mm, Pitch 0,40mm, IPC Medium Density)
pins: 1 A1, 2 A2, 3 A3, 4 A4, 5 DIR3, 6 DIR4, 7 OE, 8 GND, 9 B4, 10 B3, 11 B2, 12 B1, 13 VCCB, 14 VCCA, 15 DIR1, 16 DIR2

## SN74LVC1G04DBVR
designator IC?
Manufacturer: Texas Instruments; Number of Inputs: 1; Voltage - Supply: 1.65 V ~ 5.5 V; Current - Quiescent (Max): 10µA; Current - Output High, Low: 32mA, 32mA; Max Propagation Delay @ V, Max CL: 3.7ns @ 5V, 50pF; Logic Level - High: 1.7 V ~ 2 V; Logic Level - Low: 0.7 V ~ 0.8 V; Logic Type: Inverter; Supplier 1: Digi-Key; RoHS: RoHS Compliant; Number of Circuits: 1; Mounting Type: Surface Mount; Supplier Device Package: SOT-23-5; Manufacturer Part Number 1: SN74LVC1G04DBVR; Operating Temperature: -40°C ~ 125°C; Packaging: Digi-Reel®; Features: -; Package / Case: SC-74A, SOT-753; Category: Integrated Circuits (ICs); Supplier Part Number 1: 296-11599-6-ND
footprint SOT23-5
pins: 2 A, 3 GND (power), 4 Y (out), 5 VCC (power)

## SN74LVC2G241
designator IC?
Logic Type: Buffer/Line Driver, Non-Inverting; Current - Output High, Low: 32mA, 32mA; Voltage - Supply: 1.65 V ~ 5.5 V; Supplier 1: Digi-Key; Package / Case: 8-LSSOP (0.11", 2.80mm Width); Category: Integrated Circuits (ICs); Mounting Type: Surface Mount; Supplier Part Number: 296-11935-1-ND
footprint SN74LVC2G241 (TSOP, 8-Leads, Body 2,95x2,80mm, Pitch 0,65mm, IPC Medium Density)
pins: 1 ~{OE}, 2 1A, 3 2Y, 4 GND, 5 2A, 6 1Y, 7 2OE, 8 VCC

## SP3010-04UTG
designator IC?
Manufacturer: Littelfuse Inc; Supplier 1: Digi-Key; Supplier: Digi-Key; Category: Circuit Protection; Supplier Device Package: 10-µDFN (2.5x1.0); Supplier Part Number: F3507TR-ND
pins: 1 SS_TX_M, 2 SS_TX_P, 3 GND, 4 SS_RX_M, 5 SS_RX_P, 6 SS_RX_P, 7 SS_RX_M, 8 GND, 9 SS_TX_P, 10 SS_TX_M

## SPX3819R2-L/TR
designator IC?, comment SPX3819R2
Manufacturer: Exar Corporation; Manufacturer Part Number 1: SPX3819R2-L/TR; Part Description: Linear Voltage Regulator IC Positive Adjustable 1 Output Adjustable 500mA 8-DFN (2x3); Regulator Topology: Positive Adjustable; Voltage - Output: Adjustable; Current - Output: 500mA; Voltage - Dropout (Typical): 0.34V @ 500mA; Number of Regulators: 1; Voltage - Input: 2.5 V ~ 16 V; Supplier 1: Digi-Key; RoHS: RoHS Compliant; Category: Integrated Circuits (ICs); Stock 1: 18339; Pricing 1: 1=0.98, 10=0.855, 25=0.7556, 100=0.6586, 250=0.57328, 500=0.48802, 1000=0.39089 (USD); Packaging: Cut Tape (CT); Part Status: Active; Current - Limit (Min): -; Operating Temperature: -40°C ~ 125°C; Mounting Type: Surface Mount; Package / Case: 8-VFDFN Exposed Pad; Supplier Device Package: 8-DFN (2x3); ComponentLink1URL: https://www.exar.com/content/document.ashx?id=615; ComponentLink1Description: https://www.exar.com/content/document.ashx?id=615; Supplier Part Number 1: 1016-1588-1-ND
footprint SPX3819R2-L/TR
pins: 1 EN (in), 2 NC, 3 VIN (in), 4 NC, 5 VOUT (out), 6 NC, 7 GND, 8 ADJ/BYP (in), 9 PAD

## SRV05-4HTG
designator IC?
Manufacturer: Littelfuse Inc; Voltage - Reverse Standoff (Typ): 6V (Max); Voltage - Clamping (Max) @ Ipp: 15V; Current - Peak Pulse (10/1000µs): 10A (8/20µs); Supplier 1: Digi-Key; Category: Circuit Protection; Package / Case: SOT-23-6; Supplier Part Number 1: F4204TR-ND
footprint SOT23-6
pins: 1 I/O1, 2 GND, 3 I/O2, 4 I/O3, 5 VCC, 6 I/O4

## STANDOFF_M-F_THREADED_M3x8x10mm_HEX_5mm dia
designator MECH?, comment # pcs.
STANDOFF M/F MET 5MM HEX 10MM L; Manufacturer 1: Keystone Electronics; Manufacturer Part Number 1: 24313; Thread/Screw/Hole Size: M3 Thread; Plating: Nickel; Between Board Height: 0.394" (10.0mm); SCDType: undef; RoHS: RoHS Compliant; Description 1: STANDOFF M/F MET 5MM HEX 10MM L; Category: Hardware Fasteners Accessories; Stock 1: 240; Pricing 1: 10=0.969, 100=0.881, 500=0.58, 1000=0.3685, 2500=0.34215 (USD); Type: Hex Threaded, Male/Female; Size: 0.197" (5.0mm) Hex; Length - Overall: 0.709" (18.0mm); Material: Brass; Color: Natural; ComponentLink1URL: http://www.keyelco.com/pdfs/M55p67.pdf; ComponentLink1Description: http://www.keyelco.com/pdfs/M55p67.pdf; Supplier 1: Digi-Key; Supplier Part Number 1: 24313K-ND
footprint PCB_standoff
pins: MH1

## STM32F103RBT6
designator U?
ARM Cortex-M3 32-bit MCU, 128 KB Flash, 20 KB Internal RAM, 51 I/Os, 64-pin LQFP, -40 to 85 degC, Tray; PartNumber: STM32F103RBT6; A/D Converter: 2x12-bit (16 Channel); FLASH Size (Prog) (kB): 128; I/Os (High Current): 51; Internal RAM Size (kB): 20; Operating Frequency(F) (Processor speed) (MHz): 72; Supply Voltage(Vcc) min (V): 2; DatasheetVersion: Rev. 16; PackageVersion: Rev. 4, 06/2013; PackageReference: LQFP64; PackageDescription: 64-Pin Low Profile Quad Flat Package, 10 x 10 mm Body, 0.5 mm Pitch; Supplier 1: Digi-Key; Supplier Part Number 1: 497-6066-ND; Supplier 2: Farnell; Supplier Part Number 2: 1447640; Supplier 3: Newark; Supplier Part Number 3: 59M2183; Supplier 4: Newark; Supplier Part Number 4: 57P1224; Supplier 5: Mouser; Supplier Part Number 5: 511-STM32F103RBT6; Core: ARM Cortex-M3; Packing: Tray; Mounting Technology: Surface Mount; ComponentLink1Description: Manufacturer URL; ComponentLink1URL: http://www.st.com/web/en/home.html; ComponentLink2Description: Datasheet; ComponentLink2URL: http://www.st.com/st-web-ui/static/active/en/resource/technical/document/datasheet/CD00161566.pdf; ComponentLink3Description: Package Specification; ComponentLink3URL: http://www.st.com/st-web-ui/static/active/en/resource/technical/document/datasheet/DM00037051.pdf
footprint STM-LQFP64_N (Thin QFP, 64-Leads, Body 10x10mm, Pitch 0.5mm, IPC Medium Density)
part A pins: 2 PC13-TAMPER-RTC (io) "PC13-TAMPER-RTC/PC13/TAMPER-RTC", 3 PC14-OSC32_IN (io) "PC14-OSC32_IN/PC14/OSC32_IN", 4 PC15-OSC32_OUT (io) "PC15-OSC32_OUT/PC15/OSC32_OUT", 5 PD0-OSC_IN (io) "PD0/OSC_IN", 6 PD1-OSC_OUT (io) "PD1/OSC_OUT", 7 NRST (io), 8 PC0 (io) "PC0/ADC12_IN10", 9 PC1 (io) "PC1/ADC12_IN11", 10 PC2 (io) "PC2/ADC12_IN12", 11 PC3 (io) "PC3/ADC12_IN13", 14 PA0-WKUP (io) "PA0-WKUP/PA0/WKUP/USART2_CTS/ADC12_IN0/TIM2_CH1_ETR", 15 PA1 (io) "PA1/USART2_RTS/ADC12_IN1/TIM2_CH2", 16 PA2 (io) "PA2/USART2_TX/ADC12_IN2/TIM2_CH3", 17 PA3 (io) "PA3/USART2_RX/ADC12_IN3/TIM2_CH4", 20 PA4 (io) "PA4/SPI1_NSS/USART2_CK/ADC12_IN4", 21 PA5 (io) "PA5/SPI1_SCK/ADC12_IN5", 22 PA6 (io) "PA6/SPI1_MISO/ADC12_IN6/TIM3_CH1/TIM1_BKIN", 23 PA7 (io) "PA7/SPI1_MOSI/ADC12_IN7/TIM3_CH2/TIM1_CH1N", 24 PC4 (io) "PC4/ADC12_IN14", 25 PC5 (io) "PC5/ADC12_IN15", 26 PB0 (io) "PB0/ADC12_IN8/TIM3_CH3/TIM1_CH2N", 27 PB1 (io) "PB1/ADC12_IN9/TIM3_CH4/TIM1_CH3N", 28 PB2 (io) "PB2/BOOT1", 29 PB10 (io) "PB10/I2C2_SCL/USART3_TX/TIM2_CH3", 30 PB11 (io) "PB11/I2C2_SDA/USART3_RX/TIM2_CH4", 33 PB12 (io) "PB12/SPI2_NSS/I2C2_SMBAl/USART3_CK/TIM1_BKIN", 34 PB13 (io) "PB13/SPI2_SCK/USART3_CTS/TIM1_CH1N", 35 PB14 (io) "PB14/SPI2_MISO/USART3_RTS/TIM1_CH2N", 36 PB15 (io) "PB15/SPI2_MOSI/TIM1_CH3N", 37 PC6 (io) "PC6/TIM3_CH1", 38 PC7 (io) "PC7/TIM3_CH2", 39 PC8 (io) "PC8/TIM3_CH3", 40 PC9 (io) "PC9/TIM3_CH4", 41 PA8 (io) "PA8/USART1_CK/TIM1_CH1/MCO", 42 PA9 (io) "PA9/USART1_TX/TIM1_CH2", 43 PA10 (io) "PA10/USART1_RX/TIM1_CH3", 44 PA11 (io) "PA11/USART1_CTS/CANRX/USBDM/TIM1_CH4", 45 PA12 (io) "PA12/USART1_RTS/CANTX/USBDP/TIM1_ETR", 46 PA13 (io) "PA13/JTMS/SWDIO", 49 PA14 (io) "PA14/JTCK/SWCLK", 50 PA15 (io) "PA15/JTDI/TIM2_CH1_ETR/SPI1_NSS", 51 PC10 (io) "PC10/USART3_TX", 52 PC11 (io) "PC11/USART3_RX", 53 PC12 (io) "PC12/USART3_CK", 54 PD2 (io) "PD2/TIM3_ETR", 55 PB3 (io) "PB3/JTDO/TIM2_CH2/TRACESWO/SPI1_SCK", 56 PB4 (io) "PB4/NJTRST/TIM3_CH1/SPI1_MISO", 57 PB5 (io) "PB5/I2C1_SMBAI/TIM3_CH2/SPI1_MOSI", 58 PB6 (io) "PB6/I2C1_SCL/TIM4_CH1/USART1_TX", 59 PB7 (io) "PB7/I2C1_SDA/TIM4_CH2/USART1_RX", 60 BOOT0 (in), 61 PB8 (io) "PB8/TIM4_CH3/I2C1_SCL/CANRX", 62 PB9 (io) "PB9/TIM4_CH4/I2C1_SDA/CANTX"
part B pins: 1 VBAT (power), 12 VSSA (power), 13 VDDA (power), 18 VSS_4 (power), 19 VDD_4 (power), 31 VSS_1 (power), 32 VDD_1 (power), 47 VSS_2 (power), 48 VDD_2 (power), 63 VSS_3 (power), 64 VDD_3 (power)

## STM32F105RBT6
designator U?
ARM Cortex-M3 32-bit MCU, 128 KB Flash, 64 KB Internal RAM, 51 I/Os, 64-pin LQFP, -40 to 85 degC, Tray; PartNumber: STM32F105RBT6; A/D Converter: 2x12-bit (16 Channel); D/A Converter: 2x12-bit (2 Channel); FLASH Size (Prog) (kB): 128; I/Os (High Current): 51; Internal RAM Size (kB): 64; Operating Frequency(F) (Processor speed) (MHz): 72; Supply Voltage(Vcc) min (V): 2; DatasheetVersion: Rev. 6; PackageVersion: Rev. 4, 06/2013; PackageReference: LQFP64; PackageDescription: 64-Pin Low Profile Quad Flat Package, 10 x 10 mm Body, 0.5 mm Pitch; Supplier 1: Digi-Key; Supplier Part Number 1: 497-8920-ND; Supplier 2: Farnell; Supplier Part Number 2: 1737133; Supplier 3: Newark; Supplier Part Number 3: 52R2326; Supplier 4: Newark; Supplier Part Number 4: 25R9437; Supplier 5: Mouser; Supplier Part Number 5: 511-STM32F105RBT6; Core: ARM Cortex-M3; Packing: Tray; Mounting Technology: Surface Mount; ComponentLink1Description: Manufacturer URL; ComponentLink1URL: http://www.st.com/web/en/home.html; ComponentLink2Description: Datasheet; ComponentLink2URL: http://www.st.com/st-web-ui/static/active/en/resource/technical/document/datasheet/CD00220364.pdf; ComponentLink3Description: Package Specification; ComponentLink3URL: http://www.st.com/st-web-ui/static/active/en/resource/technical/document/datasheet/DM00037051.pdf
footprint STM-LQFP64_N (Thin QFP, 64-Leads, Body 10x10mm, Pitch 0.5mm, IPC Medium Density)
part A pins: 2 PC13-TAMPER-RTC (io) "PC13-TAMPER-RTC/PC13/TAMPER-RTC", 3 PC14-OSC32_IN (io) "PC14-OSC32_IN/PC14/OSC32_IN", 4 PC15-OSC32_OUT (io) "PC15-OSC32_OUT/PC15/OSC32_OUT", 5 PD0-OSC_IN (io) "PD0/OSC_IN", 6 PD1-OSC_OUT (io) "PD1/OSC_OUT", 7 NRST (io), 8 PC0 (io) "PC0/ADC12_IN10", 9 PC1 (io) "PC1/ADC12_IN11/ETH_MII_MDC/ETH_RMII_MDC", 10 PC2 (io) "PC2/ADC12_IN12/ETH_MII_TXD2", 11 PC3 (io) "PC3/ADC12_IN13/ETH_MII_TX_CLK", 14 PA0-WKUP (io) "PA0-WKUP/PA0/WKUP/USART2_CTS/ADC12_IN0/TIM2_CH1_ETR/TIM5_CH1/ETH_MII_CRS_WKUP", 15 PA1 (io) "PA1/USART2_RTS/ADC12_IN1/TIM5_CH2/TIM2_CH2/ETH_MII_RX_CLK/ETH_RMII_REF_CLK", 16 PA2 (io) "PA2/USART2_TX/TIM5_CH3/ADC12_IN2/TIM2_CH3/ETH_MII_MDIO/ETH_RMII_MDIO", 17 PA3 (io) "PA3/USART2_RX/TIM5_CH4/ADC12_IN3/TIM2_CH4/ETH_MII_COL", 20 PA4 (io) "PA4/SPI1_NSS/DAC_OUT1/USART2_CK/ADC12_IN4/SPI3_NSS/I2S3_WS", 21 PA5 (io) "PA5/SPI1_SCK/DAC_OUT2/ADC12_IN5", 22 PA6 (io) "PA6/SPI1_MISO/ADC12_IN6/TIM3_CH1/TIM1_BKIN", 23 PA7 (io) "PA7/SPI1_MOSI/ADC12_IN7/TIM3_CH2/ETH_MII_RX_DV/ETH_RMII_CRS_DV/TIM1_CH1N", 24 PC4 (io) "PC4/ADC12_IN14/ETH_MII_RXD0/ETH_RMII_RXD0", 25 PC5 (io) "PC5/ADC12_IN15/ETH_MII_RXD1/ETH_RMII_RXD1", 26 PB0 (io) "PB0/ADC12_IN8/TIM3_CH3/ETH_MII_RXD2/TIM1_CH2N", 27 PB1 (io) "PB1/ADC12_IN9/TIM3_CH4/ETH_MII_RXD3/TIM1_CH3N", 28 PB2 (io) "PB2/BOOT1", 29 PB10 (io) "PB10/I2C2_SCL/USART3_TX/ETH_MII_RX_ER/TIM2_CH3", 30 PB11 (io) "PB11/I2C2_SDA/USART3_RX/ETH_MII_TX_EN/ETH_RMII_TX_EN/TIM2_CH4", 33 PB12 (io) "PB12/SPI2_NSS/I2S2_WS/I2C2_SMBA/USART3_CK/TIM1_BKIN/CAN2_RX/ETH_MII_TXD0/ETH_RMII_TXD0", 34 PB13 (io) "PB13/SPI2_SCK/I2S2_CK/USART3_CTS/TIM1_CH1N/CAN2_TX/ETH_MII_TXD1/ETH_RMII_TXD1", 35 PB14 (io) "PB14/SPI2_MISO/TIM1_CH2N/USART3_RTS", 36 PB15 (io) "PB15/SPI2_MOSI/I2S2_SD/TIM1_CH3N", 37 PC6 (io) "PC6/I2S2_MCK/TIM3_CH1", 38 PC7 (io) "PC7/I2S3_MCK/TIM3_CH2", 39 PC8 (io) "PC8/TIM3_CH3", 40 PC9 (io) "PC9/TIM3_CH4", 41 PA8 (io) "PA8/USART1_CK/OTG_FS_SOF/TIM1_CH1/MCO", 42 PA9 (io) "PA9/USART1_TX/TIM1_CH2/OTG_FS_VBUS", 43 PA10 (io) "PA10/USART1_RX/TIM1_CH3/OTG_FS_ID", 44 PA11 (io) "PA11/USART1_CTS/CAN1_RX/TIM1_CH4/OTG_FS_DM", 45 PA12 (io) "PA12/USART1_RTS/OTG_FS_DP/CAN1_TX/TIM1_ETR", 46 PA13 (io) "PA13/JTMS-SWDIO", 49 PA14 (io) "PA14/JTCK-SWCLK", 50 PA15 (io) "PA15/JTDI/SPI3_NSS/I2S3_WS/TIM2_CH1_ETR/SPI1_NSS", 51 PC10 (io) "PC10/UART4_TX/USART3_TX/SPI3_SCK/I2S3_CK", 52 PC11 (io) "PC11/UART4_RX/USART3_RX/SPI3_MISO", 53 PC12 (io) "PC12/UART5_TX/USART3_CK/SPI3_MOSI/I2S3_SD", 54 PD2 (io) "PD2/TIM3_ETR/UART5_RX", 55 PB3 (io) "PB3/JTDO/SPI3_SCK/I2S3_CK/TRACESWO/TIM2_CH2/SPI1_SCK", 56 PB4 (io) "PB4/NJTRST/SPI3_MISO/TIM3_CH1/SPI1_MISO", 57 PB5 (io) "PB5/I2C1_SMBA/SPI3_MOSI/ETH_MII_PPS_OUT/I2S3_SD/ETH_RMII_PPS_OUT/TIM3_CH2/SPI1_MOSI/CAN2_RX", 58 PB6 (io) "PB6/I2C1_SCL/TIM4_CH1/USART1_TX/CAN2_TX", 59 PB7 (io) "PB7/I2C1_SDA/TIM4_CH2/USART1_RX", 60 BOOT0 (in), 61 PB8 (io) "PB8/TIM4_CH3/ETH_MII_TXD3/I2C1_SCL/CAN1_RX", 62 PB9 (io) "PB9/TIM4_CH4/I2C1_SDA/CAN1_TX"
part B pins: 1 VBAT (power), 12 VSSA (power), 13 VDDA (power), 18 VSS_4 (power), 19 VDD_4 (power), 31 VSS_1 (power), 32 VDD_1 (power), 47 VSS_2 (power), 48 VDD_2 (power), 63 VSS_3 (power), 64 VDD_3 (power)

## SW_SM_2bit
designator SW?, comment 2 bit switch
Manufacturer: TE Connectivity Alcoswitch Switches; Manufacturer Part Number 1: 1571983-1; Circuit: SPST; Voltage Rating: 24VDC; Mechanical Life: 1,000 Cycles; Current Rating: 25mA; Actuator Level: Flush, Recessed; Pitch: 0.050" (1.27mm), Half; Actuator Type: Slide (Standard); Body Material: Polyphenylene Sulfide (PPS); Number of Positions: 2; Washable: Yes; Supplier 1: Digi-Key; Features: Tape Seal; Termination Style: Gull Wing; Category: Switches; Electrical Life: 1,000 Cycles; Length: 0.144" (3.67mm); Contact Finish: Gold; Packaging: Tube; Operating Temperature: -30°C ~ 85°C; RoHS: RoHS Compliant; Contact Material: Copper Alloy; Height Above Board: 0.091" (2.30mm); Mounting Type: Surface Mount; Supplier Part Number 1: 450-1431-ND
footprint SW_2WAY_SMD_1P27 (DIP Switch; 16 Leads, 1.27 pitch)
pins: 1 A1, 2 A2, 3 B2, 4 B1

## SW_SM_4bit
designator SW?, comment 4 bit switch
Manufacturer Part Number 1: A6H-4101; Manufacturer: Omron Electronics Inc-EMC Div; Pitch: 0.050" (1.27mm), Half; Mechanical Life: 1,000 Cycles; Washable: No; Current Rating: 25mA; Number of Positions: 4; Voltage Rating: 24VDC; Actuator Level: Flush, Recessed; Circuit: SPST; Actuator Type: Slide (Standard); Supplier 1: Digi-Key; Height Above Board: 0.061" (1.55mm); RoHS: RoHS Compliant; Termination Style: Gull Wing; Electrical Life: 1,000 Cycles; Length: 0.248" (6.31mm); Category: Switches; Operating Temperature: -20°C ~ 70°C; Body Material: -; Contact Material: -; Features: -; Mounting Type: Surface Mount; Contact Finish: -; Packaging: Tube; Supplier Part Number 1: SW1080-ND
footprint SW_4WAY_SMD_1P27 (DIP Switch; 8 Leads, 1.27 pitch)
pins: 1 A1, 2 A2, 3 A3, 4 A4, 5 B4, 6 B3, 7 B2, 8 B1

## SW_SM_8bit
designator SW?, comment 8 bit switch
Manufacturer: Omron Electronics Inc-EMC Div; Manufacturer Part Number: A6H-8101; Actuator Level: Flush; Actuator Type: Standard; Circuit: SPST; Contact Rating @ Voltage: 0.025A @ 24VDC; Number of Positions: 8; Supplier 1: Digi-Key; Mounting Type: Surface Mount; Category: Switches; Supplier Part Number 1: SW1118-ND
footprint SW_8WAY_SMD (DIP Switch; 16 Leads)
pins: 1 A1, 2 A2, 3 A3, 4 A4, 5 A5, 6 A6, 7 A7, 8 A8, 9 B8, 10 B7, 11 B6, 12 B5, 13 B4, 14 B3, 15 B2, 16 B1

## SW_THD_SPDT_On-On
designator S?, comment ON-ON
Switch THD vertical toggle SPDT; Manufacturer 1: TE Connectivity; Manufacturer Part Number 1: SLS121PC04; Contact Rating @ Voltage: 0.25A @ 125VAC; Circuit: SPDT; Mounting Type: PCB mount; Supplier 1: Digi-Key; Supplier Part Number 1: 450-1598-ND; Switch Function: On-On
footprint SWITCH_SPDT_SLIDER (TE Connectivity SLS121PC04 SPDT slider)
footprint SWITCH_SPDT_SLIDER (TE Connectivity SLS121PC04 SPDT slider)
pins: 1, 2, 3

## SW_THD_SPDT_On-On_v2
designator S?, comment ON-ON  (value not drawn)
Switch THD vertical toggle SPDT; Manufacturer Part Number: 1101M2S3CQE2; Manufacturer: C&K Components; Voltage Rating - AC: 120V; Actuator Length: 5.08mm; Current Rating: 6A (AC/DC); Electrical Life: 40,000 Cycles; Switch Travel: 2.16mm; Voltage Rating - DC: 28V; Supplier 1: Digi-Key; Termination Style: PC Pin; Operating Temperature: -30°C ~ 65°C; Category: Switches; Switch Function: On-On; Supplier Part Number 1: CKN5001-ND
footprint SWITCH_SPDT_SLIDER - duplicate (TE Connectivity SLS121PC04 SPDT slider)
pins: 1, 2, 3

## SYD-20-33+_coupler
designator IC?, comment SYD-20-33+
Directional RF coupler 30 to 3000 MHz
footprint SYD-20-33+
pins: 1 OUT (out), 2 GND, 3 GND, 4 GND, 5 COUPLED OUT (out), 6 GND, 7 GND, 8 IN (in)

## TESTPOINT_THT_MINI
designator TP?  (value not drawn)
Test Point PCB mount Miniature White; Manufacturer 1: Keystone Electronics; Manufacturer Part Number 1: 5002; Mounting Type: 0.040" (1.0mm) Hole Diameter; Material: Base, Nylon 46, UL 94V-0; Supplier 1: Digi-Key; Supplier Part Number 1: 5002K-ND
footprint TP-THT-MINI (Thru-hole test point loop)
pins: 1

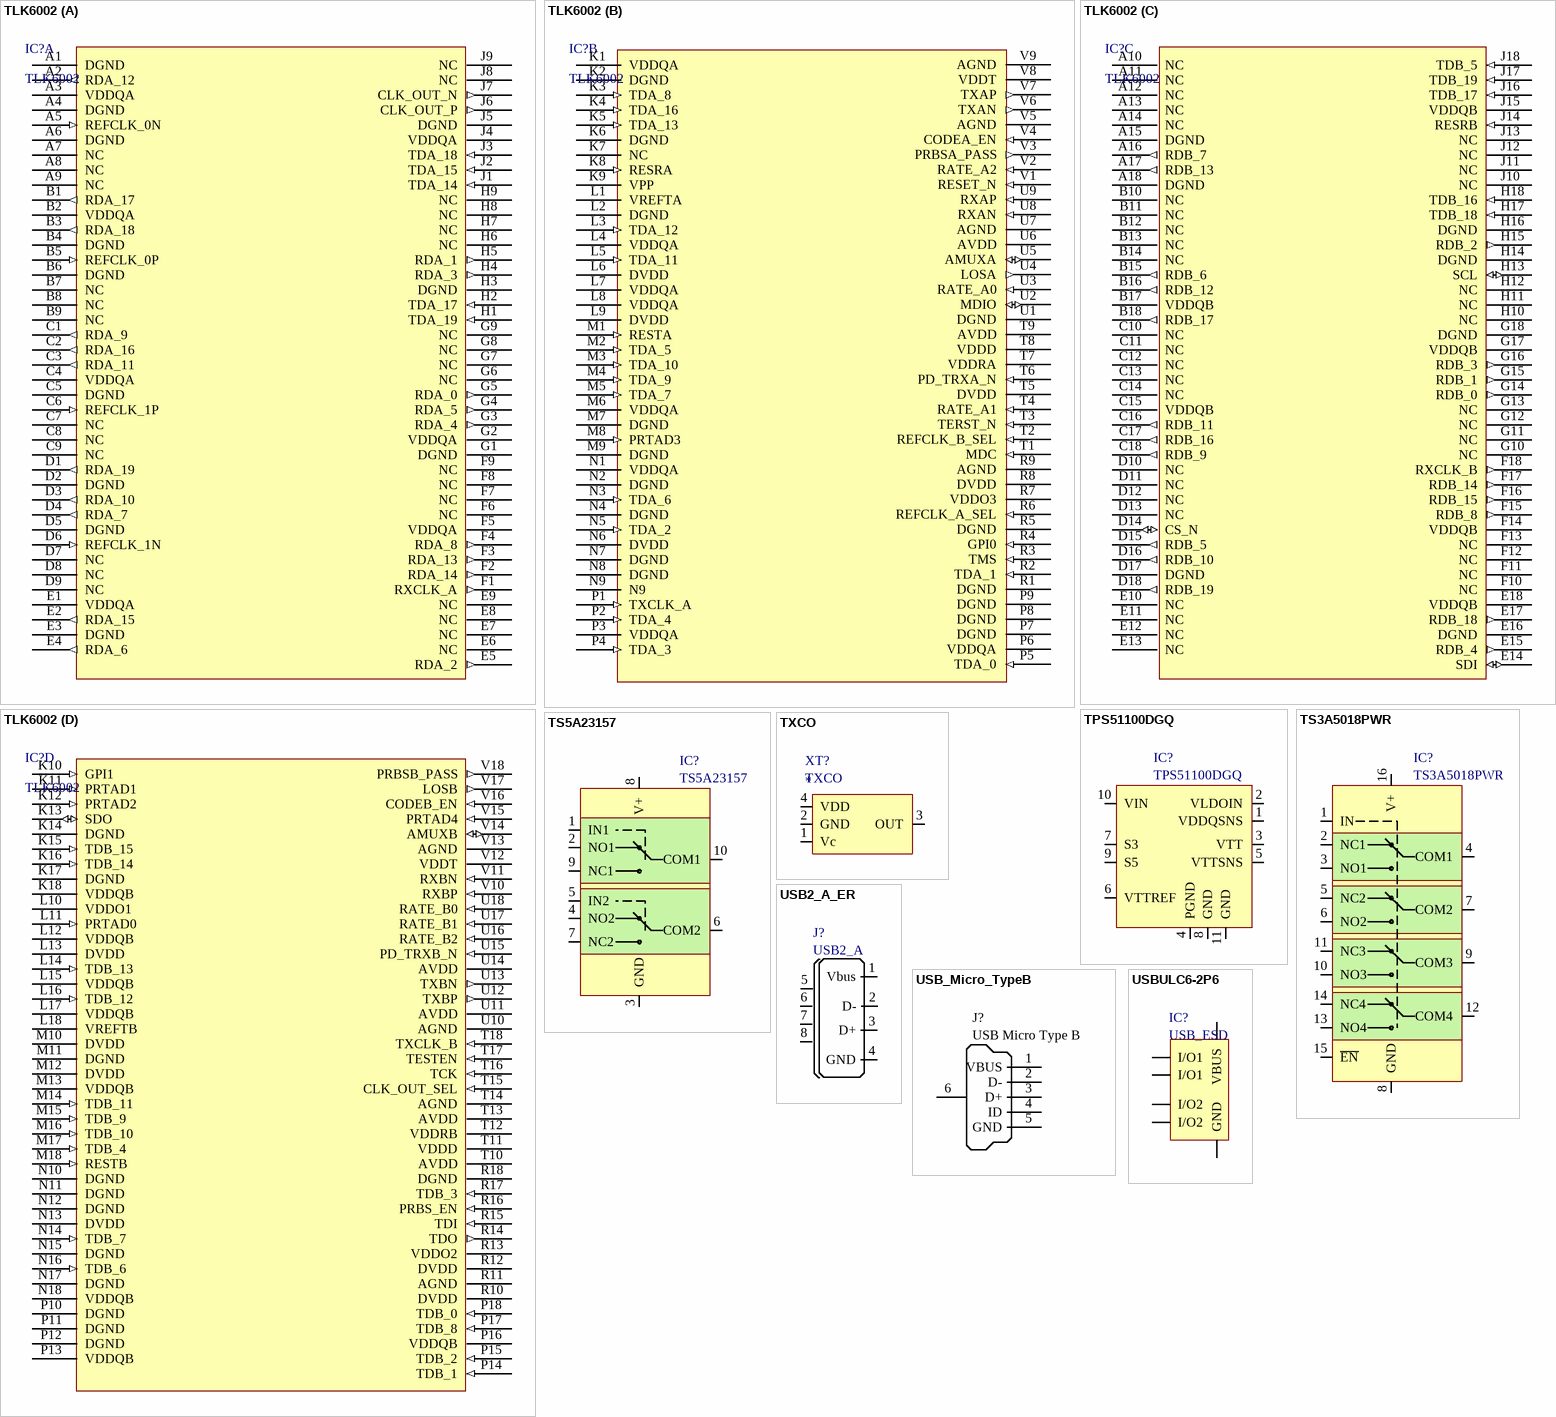
[diagram p33: symbols TLK6002 to USBULC6-2P6]

## TLK6002
designator IC?
Manufacturer: Texas Instruments; Manufacturer Part Number: TLK6002ZEU; Voltage - Supply: 1.5 V, 1.8 V; Number of Drivers/Receivers: 2/2; Duplex: Full; Protocol: Gigabit Ethernet; Supplier 1: Digi-Key; Type: Transceiver; Packaging: Tray; RoHS: RoHS Compliant; Category: Integrated Circuits (ICs); Operating Temperature: -40°C ~ 85°C; Mounting Type: Surface Mount; Package / Case: 324-BGA; Supplier Device Package: 324-BGA; Data Rate: -; Receiver Hysteresis: -; Supplier Part Number 1: 296-27459-5-ND
footprint TLK6002
part A pins: A1 DGND (power), A2 RDA_12 (out), A3 VDDQA (power), A4 DGND (power), A5 REFCLK_0N (in), A6 DGND (power), A7 NC, A8 NC, A9 NC, B1 RDA_17 (out), B2 VDDQA (power), B3 RDA_18 (out), B4 DGND (power), B5 REFCLK_0P (in), B6 DGND (power), B7 NC, B8 NC, B9 NC, C1 RDA_9 (out), C2 RDA_16 (out), C3 RDA_11 (out), C4 VDDQA (power), C5 DGND (power), C6 REFCLK_1P (in), C7 NC, C8 NC, C9 NC, D1 RDA_19 (out), D2 DGND (power), D3 RDA_10 (out), D4 RDA_7 (out), D5 DGND (power), D6 REFCLK_1N (in), D7 NC, D8 NC, D9 NC, E1 VDDQA (power), E2 RDA_15 (out), E3 DGND (power), E4 RDA_6 (out), E5 RDA_2 (out), E6 NC, E7 NC, E8 NC, E9 NC, F1 RXCLK_A (out), F2 RDA_14 (out), F3 RDA_13 (out), F4 RDA_8 (out), F5 VDDQA (power), F6 NC, F7 NC, F8 NC, F9 NC, G1 DGND (power), G2 VDDQA (power), G3 RDA_4 (out), G4 RDA_5 (out), G5 RDA_0 (out), G6 NC, G7 NC, G8 NC, G9 NC, H1 TDA_19 (in), H2 TDA_17 (in), H3 DGND (power), H4 RDA_3 (out), H5 RDA_1 (out), H6 NC, H7 NC, H8 NC, H9 NC, J1 TDA_14 (in), J2 TDA_15 (in), J3 TDA_18 (in), J4 VDDQA (power), J5 DGND (power), J6 CLK_OUT_P (out), J7 CLK_OUT_N (out), J8 NC, J9 NC
part B pins: K1 VDDQA (power), K2 DGND (power), K3 TDA_8 (in), K4 TDA_16 (in), K5 TDA_13 (in), K6 DGND (power), K7 NC, K8 RESRA (in), K9 VPP (power), L1 VREFTA (power), L2 DGND (power), L3 TDA_12 (in), L4 VDDQA (power), L5 TDA_11 (in), L6 DVDD (power), L7 VDDQA (power), L8 VDDQA (power), L9 DVDD (power), M1 RESTA (in), M2 TDA_5 (in), M3 TDA_10 (in), M4 TDA_9 (in), M5 TDA_7 (in), M6 VDDQA (power), M7 DGND (power), M8 PRTAD3 (in), M9 DGND (power), N1 VDDQA (power), N2 DGND (power), N3 TDA_6 (in), N4 DGND (power), N5 TDA_2 (in), N6 DVDD (power), N7 DGND (power), N8 DGND (power), N9, P1 TXCLK_A (in), P2 TDA_4 (in), P3 VDDQA (power), P4 TDA_3 (in), P5 TDA_0 (in), P6 VDDQA (power), P7 DGND (power), P8 DGND (power), P9 DGND (power), R1 DGND (power), R2 TDA_1 (in), R3 TMS (in), R4 GPI0 (in), R5 DGND (power), R6 REFCLK_A_SEL (in), R7 VDDO3 (power), R8 DVDD (power), R9 AGND (power), T1 MDC (in), T2 REFCLK_B_SEL (in), T3 TERST_N (in), T4 RATE_A1 (in), T5 DVDD (power), T6 PD_TRXA_N (in), T7 VDDRA (power), T8 VDDD (power), T9 AVDD (power), U1 DGND (power), U2 MDIO (io), U3 RATE_A0 (in), U4 LOSA (out), U5 AMUXA (io), U6 AVDD (power), U7 AGND (power), U8 RXAN (in), U9 RXAP (in), V1 RESET_N (in), V2 RATE_A2 (in), V3 PRBSA_PASS (out), V4 CODEA_EN (in), V5 AGND (power), V6 TXAN (out), V7 TXAP (out), V8 VDDT (power), V9 AGND (power)
part C pins: A10 NC, A11 NC, A12 NC, A13 NC, A14 NC, A15 DGND (power), A16 RDB_7 (out), A17 RDB_13 (out), A18 DGND (power), B10 NC, B11 NC, B12 NC, B13 NC, B14 NC, B15 RDB_6 (out), B16 RDB_12 (out), B17 VDDQB (power), B18 RDB_17 (out), C10 NC, C11 NC, C12 NC, C13 NC, C14 NC, C15 VDDQB (power), C16 RDB_11 (out), C17 RDB_16 (out), C18 RDB_9 (out), D10 NC, D11 NC, D12 NC, D13 NC, D14 CS_N (io), D15 RDB_5 (out), D16 RDB_10 (out), D17 DGND (power), D18 RDB_19 (out), E10 NC, E11 NC, E12 NC, E13 NC, E14 SDI (io), E15 RDB_4 (out), E16 DGND (power), E17 RDB_18 (out), E18 VDDQB (power), F10 NC, F11 NC, F12 NC, F13 NC, F14 VDDQB (power), F15 RDB_8 (out), F16 RDB_15 (out), F17 RDB_14 (out), F18 RXCLK_B (out), G10 NC, G11 NC, G12 NC, G13 NC, G14 RDB_0 (out), G15 RDB_1 (out), G16 RDB_3 (out), G17 VDDQB (power), G18 DGND (power), H10 NC, H11 NC, H12 NC, H13 SCL (io), H14 DGND (power), H15 RDB_2 (out), H16 DGND (power), H17 TDB_18 (in), H18 TDB_16 (in), J10 NC, J11 NC, J12 NC, J13 NC, J14 RESRB (in), J15 VDDQB (power), J16 TDB_17 (in), J17 TDB_19 (in), J18 TDB_5 (in)
part D pins: K10 GPI1 (in), K11 PRTAD1 (in), K12 PRTAD2 (in), K13 SDO (io), K14 DGND (power), K15 TDB_15 (in), K16 TDB_14 (in), K17 DGND (power), K18 VDDQB (power), L10 VDDO1 (power), L11 PRTAD0 (in), L12 VDDQB (power), L13 DVDD (power), L14 TDB_13 (in), L15 VDDQB (power), L16 TDB_12 (in), L17 VDDQB (power), L18 VREFTB (power), M10 DVDD (power), M11 DGND (power), M12 DVDD (power), M13 VDDQB (power), M14 TDB_11 (in), M15 TDB_9 (in), M16 TDB_10 (in), M17 TDB_4 (in), M18 RESTB (in), N10 DGND (power), N11 DGND (power), N12 DGND (power), N13 DVDD (power), N14 TDB_7 (in), N15 DGND (power), N16 TDB_6 (in), N17 DGND (power), N18 VDDQB (power), P10 DGND (power), P11 DGND (power), P12 DGND (power), P13 VDDQB (power), P14 TDB_1 (in), P15 TDB_2 (in), P16 VDDQB (power), P17 TDB_8 (in), P18 TDB_0 (in), R10 DVDD (power), R11 AGND (power), R12 DVDD (power), R13 VDDO2 (power), R14 TDO (out), R15 TDI (in), R16 PRBS_EN (in), R17 TDB_3 (in), R18 DGND (power), T10 AVDD (power), T11 VDDD (power), T12 VDDRB (power), T13 AVDD (power), T14 AGND (power), T15 CLK_OUT_SEL (in), T16 TCK (in), T17 TESTEN (in), T18 TXCLK_B (in), U10 AGND (power), U11 AVDD (power), U12 TXBP (out), U13 TXBN (out), U14 AVDD (power), U15 PD_TRXB_N (in), U16 RATE_B2 (in), U17 RATE_B1 (in), U18 RATE_B0 (in), V10 RXBP (in), V11 RXBN (in), V12 VDDT (power), V13 AGND (power), V14 AMUXB (io), V15 PRTAD4 (in), V16 CODEB_EN (in), V17 LOSB (out), V18 PRBSB_PASS (out)

## TPS51100DGQ
designator IC?
Voltage - Output: 1.2 V ~ 3.6 V; Voltage - Input: 4.75 V ~ 5.25 V; Supplier 1: Digi-Key; Package / Case: 10-TFSOP, 10-MSOP (0.118", 3.00mm Width) Exposed Pad; Operating Temperature: -40°C ~ 85°C; Category: Integrated Circuits (ICs); Supplier Part Number 1: 296-23595-6-ND
footprint TPS51100DGQ (TSSOP, 10-Leads, Body 3,00x3,00mm, Pitch 0,50mm, IPC Medium Density)
pins: 1 VDDQSNS, 2 VLDOIN, 3 VTT, 4 PGND, 5 VTTSNS, 6 VTTREF, 7 S3 (in), 8 GND, 9 S5 (in), 10 VIN, 11 GND

## TS3A5018PWR
designator IC?
Manufacturer: TEXAS INSTRUMENTS; On State Resistance Max: 10; Analog Switch Case: TSSOP; Supply Voltage Range: 2.3V to 3.6; No. of Pins: 16; Analog Switch Type: SPDT; Supplier 1: Newark; Manufacturer Part Number: TS3A5018PW; Supplier Part Number 1: 71J8329
footprint TS3A5018PWR (TSOP, 16-Leads, Body 5,00x4,40mm, Pitch 0,65mm, IPC Medium Density)
pins: 1 IN, 2 NC1, 3 NO1, 4 COM1, 5 NC2, 6 NO2, 7 COM2, 8 GND, 9 COM3, 10 NO3, 11 NC3, 12 COM4, 13 NO4, 14 NC4, 15 ~{EN}, 16 V+

## TS5A23157
designator IC?
TS3A5018; Manufacturer: Texas Instruments; Current - Supply: 1µA; Circuit: 2 x SPDT; On-State Resistance: 10 Ohm; Voltage Supply Source: Single Supply; Voltage - Supply, Single/Dual (±): 1.8 V ~ 5.5 V; Function: Switch; Supplier 1: Digi-Key; Category: Integrated Circuits (ICs); Supplier Device Package: 10-VSSOP; Package / Case: 10-TFSOP, 10-MSOP (0.118", 3.00mm Width); Mounting Type: Surface Mount; Supplier Part Number 1: 296-17076-1-ND
footprint TS5A23157 (TSSOP, 10-Leads, Body 3,00x3,00mm, Pitch 0,50mm, IPC Medium Density)
pins: 1 IN1, 2 NO1, 3 GND, 4 NO2, 5 IN2, 6 COM2, 7 NC2, 8 V+, 9 NC1, 10 COM1

## TXCO
designator XT?
Assembly Info: *
pins: 1 Vc, 2 GND, 3 OUT, 4 VDD

## USB2_A_ER
designator J?, comment USB2_A
Manufacturer Part Number: A-USB/2-A-E-R; Connector Type: USB - A; Specifications: USB 2.0; Number of Contacts: 4; Supplier 1: Digi-Key; Category: Connectors, Interconnects; Supplier Part Number 1: AE10400-ND
footprint USB2_A
pins: 1 Vbus, 2 D-, 3 D+, 4 GND, 5 Shell, 6 Shell, 7 Shell, 8 Shell

## USB_Micro_TypeB
designator J?, comment USB Micro Type B
Connector SMD USB Micro Type B; Connector Type: USB - micro B; Number of Contacts: 5; Supplier 1: Digi-Key; Category: Connectors, Interconnects; Mounting Type: Surface Mount, Right Angle, Horizontal; Supplier Part Number 1: 609-4616-2-ND
footprint microUSB
pins: 1 VBUS, 2 D-, 3 D+, 4 ID, 5 GND, 6 Shell

## USBULC6-2P6
designator IC?, comment USB_ESD
Manufacturer Part Number 1: USBULC6-2P6; Manufacturer: STMicroelectronics; Current - Peak Pulse (10/1000µs): 5A (8/20µs); Capacitance @ Frequency: 1pF @ 1MHz; Bidirectional Channels: 2; Voltage - Reverse Standoff (Typ): 5V; Voltage - Breakdown (Min): 6V; Power Line Protection: Yes; Voltage - Clamping (Max) @ Ipp: 17V; Supplier 1: Digi-Key; Unidirectional Channels: -; Mounting Type: Surface Mount; Applications: Ethernet; Type: Steering (Rail to Rail); Power - Peak Pulse: -; Category: Circuit Protection; Supplier Device Package: SOT-666; Package / Case: SOT-563, SOT-666; Packaging: Cut Tape (CT); Operating Temperature: -; RoHS: RoHS Compliant; Supplier Part Number 1: 497-15162-1-ND
footprint USBULC6
pins: 1 I/O1, 2 GND, 3 I/O2, 4 I/O2, 5 VBUS, 6 I/O1

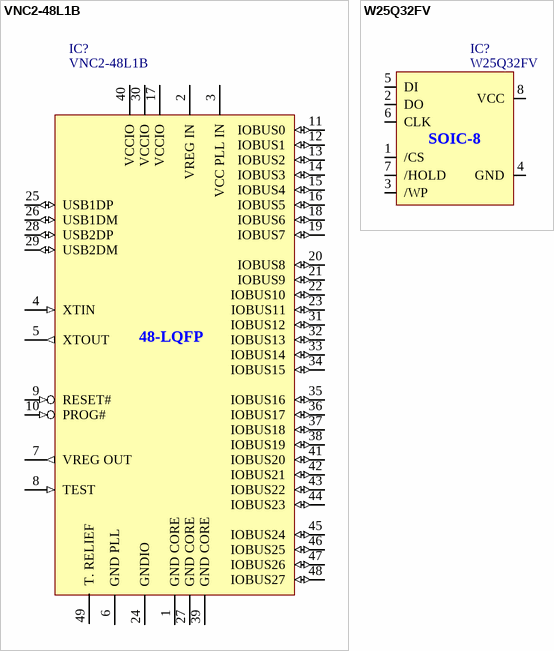
[diagram p34: symbols VNC2-48L1B to W25Q32FV]